# EAGLE library part PROMININOHEADER (library ChapR-Custom)
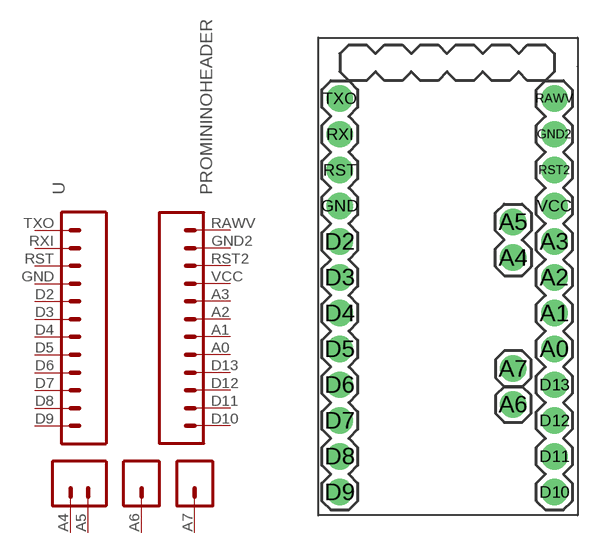
[diagram p4: symbol with the pads of PROMININOHEADER; footprint PROMININOHEADER]

Designator prefix -

## PROMININOHEADER  [PROMININOHEADER]
A0  A0  pas
A1  A1  pas
A2  A2  pas
A3  A3  pas
A4  A4  pas
A5  A5  pas
A6  A6  pas
A7  A7  pas
D2  D2  pas
D3  D3  pas
D4  D4  pas
D5  D5  pas
D6  D6  pas
D7  D7  pas
D8  D8  pas
D9  D9  pas
D10  D10  pas
D11  D11  pas
D12  D12  pas
D13  D13  pas
GND  GND  pas
GND2  GND2  pas
RAWV  RAWV  pas
RST  RST  pas
RST2  RST2  pas
RXI  RXI  pas
TXO  TXO  pas
VCC  VCC  pas

## Footprint PROMININOHEADER (pad centres in mm)
The pro-mini Arduino package with no PCB mounting for the programming header.
drill 1.016 pad 1.88: A0 6.35,-5.08; A1 6.35,-2.54; A2 6.35,0; A3 6.35,2.54; A4 3.429,1.397; A5 3.429,3.937; A6 3.429,-9.017; A7 3.429,-6.477; D2 -8.89,2.54; D3 -8.89,0; D4 -8.89,-2.54; D5 -8.89,-5.08; D6 -8.89,-7.62; D7 -8.89,-10.16; D8 -8.89,-12.7; D9 -8.89,-15.24; D10 6.35,-15.24; D11 6.35,-12.7; D12 6.35,-10.16; D13 6.35,-7.62; GND -8.89,5.08; GND2 6.35,10.16; RAWV 6.35,12.7; RST -8.89,7.62; RST2 6.35,7.62; RXI -8.89,10.16; TXO -8.89,12.7; VCC 6.35,5.08